# Altium schematic symbol library InterfaceBoard.SchLib: 26 symbols
Pins are listed as number, name and electrical type; pins without a type are passive.

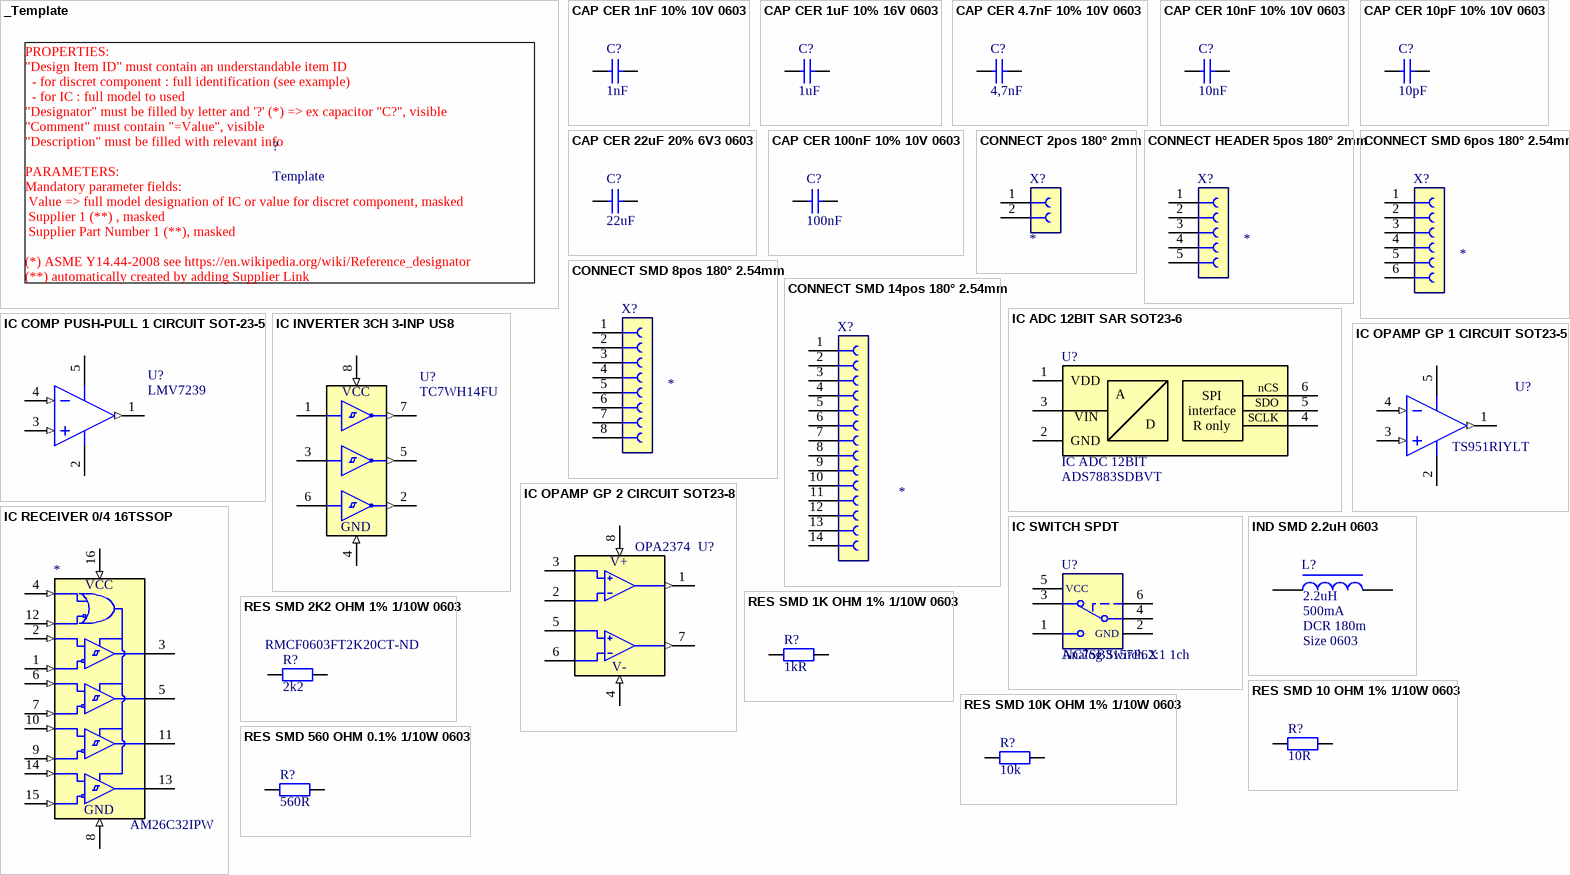
[diagram p0: symbols _Template to RES SMD 560 OHM 0.1% 1/10W 0603]

## _Template
designator ?, comment Template
Template component; Value: Template
footprint _Template (Template component)
text: PROPERTIES: / "Design Item ID"	must contain an understandable item ID / - for discret component : full identification (see example) / - for IC : full model to used / "Designator"	must be filled by letter and '?' (*) => ex capacitor "C?", visible / "Comment"	must contain "=Value", visible / "Description"	must be filled with relevant info / PARAMETERS: / Mandatory parameter fields: / Value => full model designation of IC or value for discret component, masked / Supplier 1 (**) , masked / Supplier Part Number 1 (**), masked / (*) ASME Y14.44-2008 see https://en.wikipedia.org/wiki/Reference_designator / (**) automatically created by adding Supplier Link /

## CAP CER 1nF 10% 10V 0603
designator C?, comment value 1nF  (hidden comment: CAP CER 1nF 0603)
1nF ±10% 10V Condensateurs céramique X7R 0603 (1608 métrique); Supplier 1: Digi-Key; Supplier Part Number 1: 399-8984-1-ND
footprint CAPC1608X08N (Chip Capacitor, 2-Leads, Body 1.60x0.80mm, IPC Medium Density)
pins: 1, 2

## CAP CER 1uF 10% 16V 0603
designator C?, comment value 1uF  (hidden comment: CAP CER 1uF 0603)
1µF ±10% 16V Condensateurs céramique X7R 0603 (1608 métrique); Supplier 1: Digi-Key; Supplier Part Number 1: 399-7847-1-ND
footprint CAPC1608X08N (Chip Capacitor, 2-Leads, Body 1.60x0.80mm, IPC Medium Density)
pins: 1, 2

## CAP CER 4.7nF 10% 10V 0603
designator C?, comment value 4,7nF  (hidden comment: CAP CER 4.7nF 0603)
4,7nF ±10% 10V Condensateurs céramique X7R 0603 (1608 métrique); Supplier 1: Digi-Key; Supplier Part Number 1: 399-9092-1-ND
footprint CAPC1608X08N (Chip Capacitor, 2-Leads, Body 1.60x0.80mm, IPC Medium Density)
pins: 1, 2

## CAP CER 10nF 10% 10V 0603
designator C?, comment value 10nF  (hidden comment: CAP CER 10nF 0603)
10nF ±10% 10V Condensateurs céramique X7R 0603 (1608 métrique); Supplier 1: Digi-Key; Supplier Part Number 1: 399-11132-1-ND
footprint CAPC1608X08N (Chip Capacitor, 2-Leads, Body 1.60x0.80mm, IPC Medium Density)
pins: 1, 2

## CAP CER 10pF 10% 10V 0603
designator C?, comment value 10pF  (hidden comment: CAP CER 10pF 0603)
10pF ±10% 10V Condensateurs céramique X7R 0603 (1608 métrique); Supplier 1: Digi-Key; Supplier Part Number 1: 399-17563-1-ND
footprint CAPC1608X08N (Chip Capacitor, 2-Leads, Body 1.60x0.80mm, IPC Medium Density)
pins: 1, 2

## CAP CER 22uF 20% 6V3 0603
designator C?, comment value 22uF  (hidden comment: CAP CER 22uF 0603)
22µF ±20% 6,3V Condensateurs céramique X5R 0603 (1608 métrique); Supplier 1: Digi-Key; Supplier Part Number 1: 399-14498-1-ND
footprint CAPC1608X08N (Chip Capacitor, 2-Leads, Body 1.60x0.80mm, IPC Medium Density)
pins: 1, 2

## CAP CER 100nF 10% 10V 0603
designator C?, comment value 100nF  (hidden comment: CAP CER 100nF 0603)
100nF ±10% 10V Condensateurs céramique X7R 0603 (1608 métrique); Supplier 1: Digi-Key; Supplier Part Number 1: 399-1095-1-ND
footprint CAPC1608X08N (Chip Capacitor, 2-Leads, Body 1.60x0.80mm, IPC Medium Density)
pins: 1, 2

## CONNECT 2pos 180° 2mm
designator X?, comment CONNECT 2pos 180°  (value not drawn)
Value: WR-TBL322; Supplier 1: Newark; Supplier Part Number 1: 99AH1144; Use: *
footprint 62000611821 - 2pin (Socket Header, Pitch 2.00 mm, THT, Vertical, single row, 6p)
pins: 1, 2

## CONNECT HEADER 5pos 180° 2mm
designator X?, comment CONNECT HEADER 5pos 180°  (value not drawn)
Value: *; Use: *
footprint 62000611821 - 5pin (Socket Header, Pitch 2.00 mm, THT, Vertical, single row, 6p)
pins: 1, 2, 3, 4, 5

## CONNECT SMD 6pos 180° 2.54mm
designator X?, comment CONNECT SMD 6pos 180°  (value not drawn)
Value: *; Use: *
footprint TE_7-215079-6
pins: 1, 2, 3, 4, 5, 6

## CONNECT SMD 8pos 180° 2.54mm
designator X?, comment CONNECT SMD 8pos 180°  (value not drawn)
Value: *; Use: *
footprint TE_7-215079-8
pins: 1, 2, 3, 4, 5, 6, 7, 8

## CONNECT SMD 14pos 180° 2.54mm
designator X?, comment CONNECT SMD 14pos 180°  (value not drawn)
Value: *; Use: *
footprint 62301421021 (Socket Header, Pitch 1.27 mm, SMT, Vertical, dual row, 14p)
pins: 1, 2, 3, 4, 5, 6, 7, 8, 9, 10, 11, 12, 13, 14

## IC ADC 12BIT SAR SOT23-6
designator U?, comment IC ADC 12BIT  value ADS7883SDBVT
12 Bits, convertisseur analogique-numérique 1 Entrée 1 SAR SOT-23-6; Supplier 1: Digi-Key; Supplier Part Number 1: 296-23635-1-ND
footprint SOT95P280X145-6N (SOT23, 6-Leads, Body 2.90x2.80mm, Pitch 0.95mm, IPC Medium Density)
pins: 1 VDD (power), 2 GND (power), 3 VIN (power), 4 SCLK (power), 5 nCS (power), 6 DOUT (power)
text: SPI; A; interface; SDO; R only; D

## IC COMP PUSH-PULL 1 CIRCUIT SOT-23-5
designator U?, comment value LMV7239  (hidden comment: COMP 1 CIRCUIT)
Comparateurs Usage général Pousser-tirer, rail-à-rail SOT-23-5; Supplier 1: Digi-Key; Supplier Part Number 1: LMV7239M5/NOPBCT-ND
footprint SOT95P280X145-5N (SOT23, 5-Leads, Body 2.90x2.80mm, Pitch 0.95mm, IPC Medium Density)
pins: 1 OUT (out), 2 IN- (power), 3 IN+ (in), 4 IN- (in), 5 IN- (power)

## IC INVERTER 3CH 3-INP US8
designator U?, comment value TC7WH14FU  (hidden comment: IC INVERTER 3CH)
Inverseur IC 3 Canal US8; Supplier 1: Digi-Key; Supplier Part Number 1: TC7WH14FULJ(CTCT-ND
footprint TSSOP50P310X100-8N (TSSOP, 8-Leads, Body 2.00x2.30mm, Pitch 0.50mm, IPC Medium Density)
pins: 1, 2 (out), 3, 4 (in), 5 (out), 6, 7 (out), 8 (in)
text: VCC; GND

## IC OPAMP GP 1 CIRCUIT SOT23-5
designator U?, comment value TS951RIYLT  (hidden comment: OPAMP 1 CIRCUIT)
CMOS Amplificateurs 1 Circuits Pôle à pôle SOT-23-5; Supplier 1: Digi-Key; Supplier Part Number 1: 497-15708-1-ND
footprint SOT95P280X145-5N (SOT23, 5-Leads, Body 2.90x2.80mm, Pitch 0.95mm, IPC Medium Density)
pins: 1 OUT (out), 2 IN- (power), 3 IN+ (in), 4 IN- (in), 5 IN- (power)

## IC OPAMP GP 2 CIRCUIT SOT23-8
designator U?, comment value OPA2374  (hidden comment: OPAMP 2 CIRCUIT)
CMOS Amplifier 2 Circuit Rail-to-Rail SOT-23-8; Supplier 1: Digi-Key; Supplier Part Number 1: 296-18504-1-ND
pins: 1 (out), 2 (power), 3 (power), 4 (in), 5 (power), 6 (power), 7 (out), 8 (in)
text: V+; V-

## IC RECEIVER 0/4 16TSSOP
designator *, comment value AM26C32IPW  (hidden comment: IC RECEIVER 0/4)
Récepteur 0/4 RS422, RS423 16-TSSOP; Supplier 1: Digi-Key; Supplier Part Number 1: 296-25909-5-ND
footprint TSOP65P640X120-16N (TSOP, 16-Leads, Body 5.00x4.40mm, Pitch 0.65mm, IPC Medium Density)
pins: 1 (in), 2 (in), 3 (power), 4 (in), 5 (power), 6 (in), 7 (in), 8 (in), 9 (in), 10 (in), 11 (power), 12 (in), 13 (power), 14 (in), 15 (in), 16 (in)
text: VCC; GND

## IC SWITCH SPDT
designator U?, comment Analog Switch 2:1 1ch  value NC7SB3157P6X
1 Circuits, circuit intégré, commutateur 2:1 15Ohms SC-88 (SC-70-6)
footprint SOT95P280X145-6N (SOT23, 6-Leads, Body 2.90x2.80mm, Pitch 0.95mm, IPC Medium Density)
pins: 1 S2A (power), 2 GND (power), 3 S1A (power), 4 D1 (power), 5 VCC (power), 6 IN1 (power)

## IND SMD 2.2uH 0603
designator L?  value 2.2uH  Size: Size 0603  DCR: DCR 180m  Current: 500mA  (hidden comment: IND SMD 2.2uH 0603)
footprint INDC1608X10N (Chip Inductor, 2-Leads, Body 1.60x0.80mm, IPC Medium Density)
pins: 1, 2

## RES SMD 1K OHM 1% 1/10W 0603
designator R?, comment value 1kR  (hidden comment: RES SMD 1K 0603)
1 kOhms ±1% 0,1W, 1/10W Pavé résistif 0603 (1608 métrique) AutomobileAEC-Q200 Couche épaisse; Supplier 1: Digi-Key; Supplier Part Number 1: RMCF0603FT1K00CT-ND
footprint RESC1508X04N (Chip Resistor, 2-Leads, Body 1.55x0.80mm, IPC Medium Density)
pins: 1, 2

## RES SMD 2K2 OHM 1% 1/10W 0603
designator R?, comment value 2k2  Supplier Part Number 1: RMCF0603FT2K20CT-ND  (hidden comment: RES SMD 2K2 0603)
2,2 kOhms ±1% 0,1W, 1/10W Pavé résistif 0603 (1608 métrique) AutomobileAEC-Q200 Couche épaisse; Supplier 1: Digi-Key
footprint RESC1508X04N (Chip Resistor, 2-Leads, Body 1.55x0.80mm, IPC Medium Density)
pins: 1, 2

## RES SMD 10 OHM 1% 1/10W 0603
designator R?, comment value 10R  (hidden comment: RES SMD 10R 0603)
10 Ohms ±1% 0,1W, 1/10W Pavé résistif 0603 (1608 métrique) AutomobileAEC-Q200 Couche épaisse; Supplier 1: Digi-Key; Supplier Part Number 1: RMCF0603FT10R0CT-ND
footprint RESC1508X04N (Chip Resistor, 2-Leads, Body 1.55x0.80mm, IPC Medium Density)
pins: 1, 2

## RES SMD 10K OHM 1% 1/10W 0603
designator R?, comment value 10k  (hidden comment: RES SMD 10K 0603)
10 kOhms ±1% 0,1W, 1/10W Pavé résistif 0603 (1608 métrique) AutomobileAEC-Q200 Couche épaisse; Supplier 1: Digi-Key; Supplier Part Number 1: RMCF0603FT10K0CT-ND
footprint RESC1508X04N (Chip Resistor, 2-Leads, Body 1.55x0.80mm, IPC Medium Density)
pins: 1, 2

## RES SMD 560 OHM 0.1% 1/10W 0603
designator R?, comment value 560R  (hidden comment: RES SMD 560R 0603)
560 Ohms ±1% 0,1W, 1/10W Pavé résistif 0603 (1608 métrique) AutomobileAEC-Q200 Couche épaisse; Supplier 1: Digi-Key; Supplier Part Number 1: A139816CT-ND
footprint RESC1508X04N (Chip Resistor, 2-Leads, Body 1.55x0.80mm, IPC Medium Density)
pins: 1, 2